# Altium footprint library 继电器.PcbLib: 2 footprints
Each footprint in its own frame and in the unit in brackets; x right, y up, seen from the top. Pads: shape width x height; smd on the part's side, far side on the other; paste and mask are expansions set on the pad; w line width, h text height; cw(c..) or ccw(c..) is an arc to the next point about the centre after c.
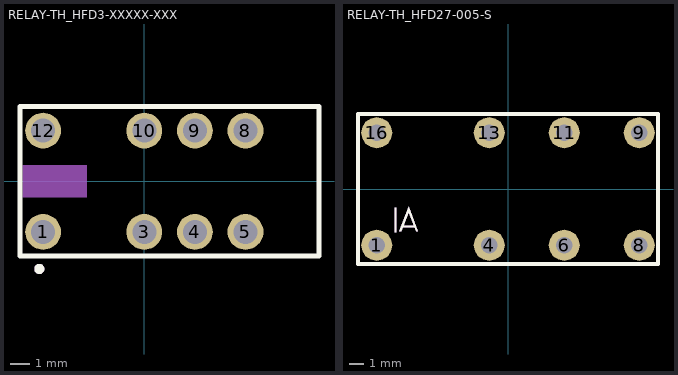
[diagram p0: the footprints below, top view; thin cyan lines are the x and y axes]

## RELAY-TH_HFD3-XXXXX-XXX [mm]
pads (8):
  round 1.8 hole 1.2: 1(-5.08,-2.54) 3(0,-2.54) 4(2.54,-2.54) 5(5.08,-2.54) 8(5.08,2.54) 9(2.54,2.54) 10(0,2.54) 12(-5.08,2.54)
Top Overlay:
  circle w0.254: c-5.27,-4.4 r0.127
  lines w0.254: -6.23,-3.75 -6.23,3.75 8.77,3.75 8.77,-3.75 -6.23,-3.75
Mechanical 6:
  circle w0.254: c-5.27,-4.4 r0.127
  region: -6.1,0.8 -2.9,0.8 -2.9,-0.8 -6.1,-0.8
Mechanical 15:
  region: -6.17,-3.75 -6.17,-3.725 -6.205,-3.69 -6.255,-3.69 -6.29,-3.725 -6.29,-3.75 -6.29,-3.775 -6.255,-3.81 -6.205,-3.81 -6.17,-3.775 -6.17,-3.75
  region: -0.25,2.69 0.25,2.69 0.25,2.39 -0.25,2.39
  region: 2.29,2.69 2.79,2.69 2.79,2.39 2.29,2.39
  region: 4.83,2.69 5.33,2.69 5.33,2.39 4.83,2.39
  region: 4.83,-2.39 5.33,-2.39 5.33,-2.69 4.83,-2.69
  region: 2.29,-2.39 2.79,-2.39 2.79,-2.69 2.29,-2.69
  region: -0.25,-2.39 0.25,-2.39 0.25,-2.69 -0.25,-2.69
  region: -5.23,2.29 -5.23,2.79 -4.93,2.79 -4.93,2.29
  region: -5.23,-2.79 -5.23,-2.29 -4.93,-2.29 -4.93,-2.79
  lines w0.051: -6.23,-3.75 -6.23,3.75 8.77,3.75 8.77,-3.75 -6.23,-3.75
3D body "K1.step": height 8.8, standoff -3.5, extent -6.23,-3.75 8.77,3.76

## RELAY-TH_HFD27-005-S [mm]
height 1.6
pads (8):
  round 2.1 hole 1.1 paste+0 mask+0.051: 1(-8.89,-3.81) 4(-1.27,-3.81) 6(3.81,-3.81) 8(8.89,-3.81) 9(8.89,3.81) 11(3.81,3.81) 13(-1.27,3.81) 16(-8.89,3.81)
Top Overlay:
  region: -7.366,-2.857 -6.731,-1.206 -6.096,-2.857 -6.223,-2.857 -6.731,-1.587 -7.239,-2.857
  region: -7.112,-2.476 -6.35,-2.476 -6.35,-2.603 -7.112,-2.603
  region: -7.684,-2.921 -7.684,-1.27 -7.557,-1.27 -7.557,-2.921
  lines w0.254: -10.16,-5.08 -10.16,5.08 10.16,5.08 10.16,-5.08 -10.16,-5.08
Mechanical 6:
  region: -7.684,-2.921 -7.684,-1.27 -7.557,-1.27 -7.557,-2.921
  region: -7.366,-2.857 -6.731,-1.206 -6.096,-2.857 -6.223,-2.857 -6.731,-1.587 -7.239,-2.857
  region: -7.112,-2.476 -6.35,-2.476 -6.35,-2.603 -7.112,-2.603
Mechanical 15:
  region: -10.04,-5 -10.04,-4.975 -10.075,-4.94 -10.125,-4.94 -10.16,-4.975 -10.16,-5 -10.16,-5.025 -10.125,-5.06 -10.075,-5.06 -10.04,-5.025 -10.04,-5
  region: 8.49,-3.61 9.29,-3.61 9.29,-4.01 8.49,-4.01
  region: -1.67,-3.61 -0.87,-3.61 -0.87,-4.01 -1.67,-4.01
  region: -9.29,4.01 -8.49,4.01 -8.49,3.61 -9.29,3.61
  region: -9.29,-3.61 -8.49,-3.61 -8.49,-4.01 -9.29,-4.01
  region: 3.41,-3.61 4.21,-3.61 4.21,-4.01 3.41,-4.01
  region: 3.41,4.01 4.21,4.01 4.21,3.61 3.41,3.61
  region: -1.67,4.01 -0.87,4.01 -0.87,3.61 -1.67,3.61
  region: 8.49,4.01 9.29,4.01 9.29,3.61 8.49,3.61
  lines w0.051: -10.1,-5 -10.1,5 10.1,5 10.1,-5 -10.1,-5
3D body "RELAY1.step": height 11.1, standoff -3.5, extent -10.1,-5 10.1,5